# Altium footprint library ON Semiconductor Footprints.PcbLib: 123 footprints (part 8 of 8)
Each footprint in its own frame and in the unit in brackets; x right, y up, seen from the top. Pads: shape width x height; smd on the part's side, far side on the other; paste and mask are expansions set on the pad; w line width, h text height; cw(c..) or ccw(c..) is an arc to the next point about the centre after c.
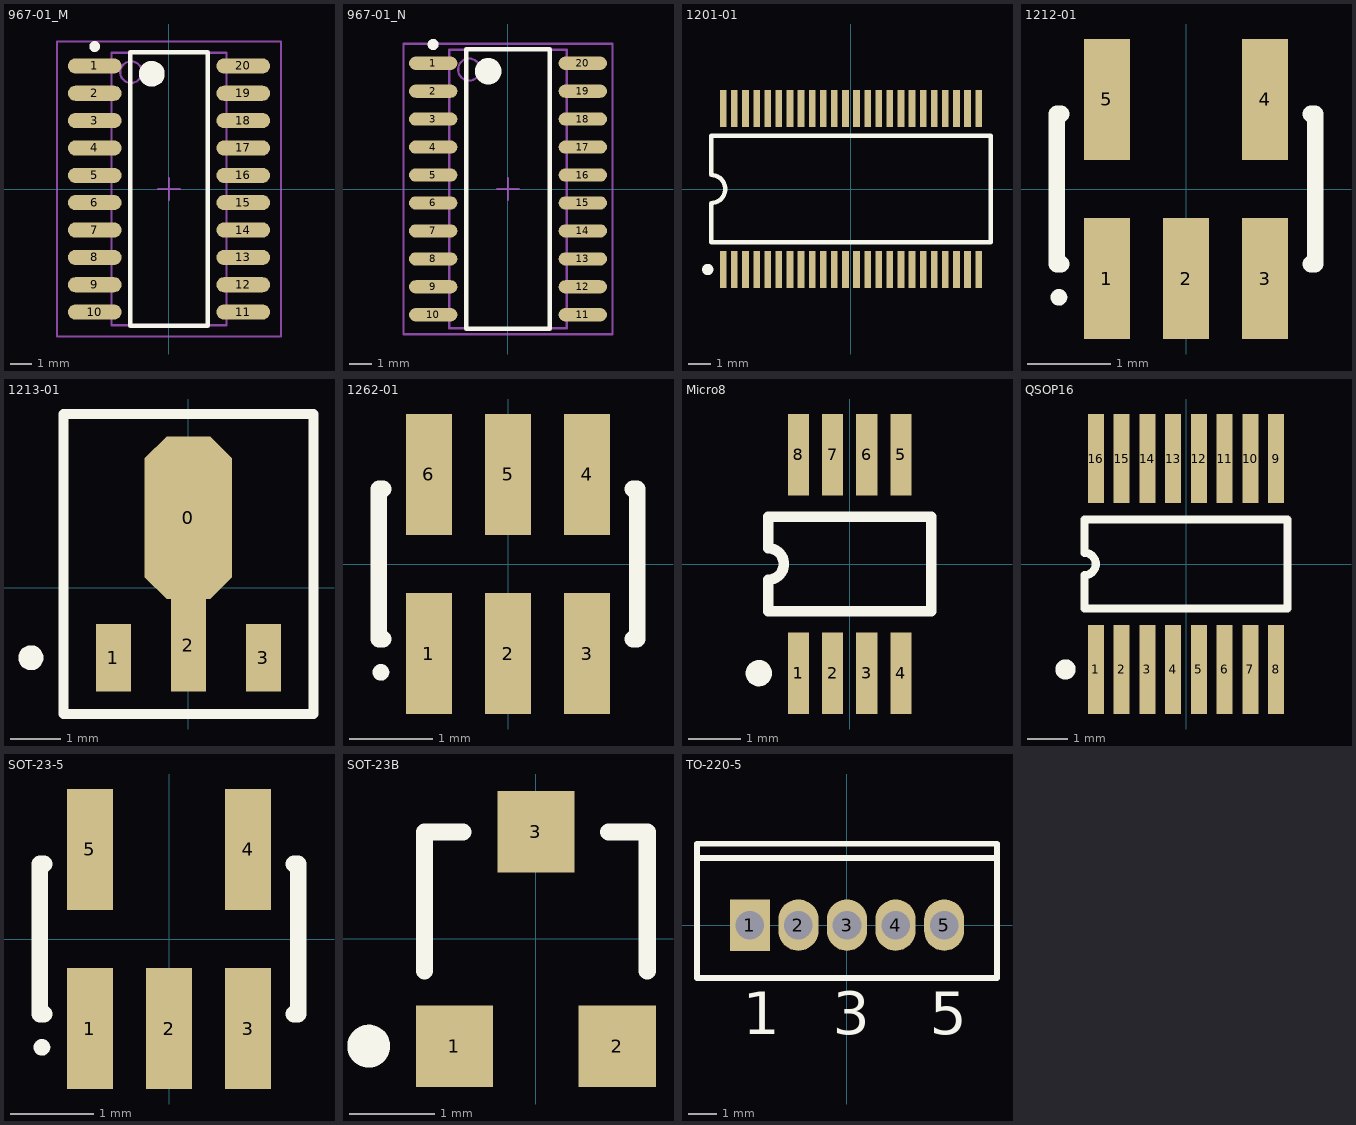
[diagram p7: the footprints below, top view; thin cyan lines are the x and y axes]

## 967-01_M [mm] "20-Pin Small Outline Package 1.27 mm Pitch, IPC Low Density"
height 2.05
pads (20):
  oval 2.5x0.7 smd: 1(-3.45,5.715) 2(-3.45,4.445) 3(-3.45,3.175) 4(-3.45,1.905) 5(-3.45,0.635) 6(-3.45,-0.635) 7(-3.45,-1.905) 8(-3.45,-3.175) 9(-3.45,-4.445) 10(-3.45,-5.715) 11(3.45,-5.715) 12(3.45,-4.445) 13(3.45,-3.175) 14(3.45,-1.905) 15(3.45,-0.635) 16(3.45,0.635) 17(3.45,1.905) 18(3.45,3.175) 19(3.45,4.445) 20(3.45,5.715)
Top Overlay:
  circle w0.6: c-0.8,5.35 r0.3
  circle w0.25: c-3.45,6.615 r0.125
  lines w0.2: -1.8,-6.35 1.8,-6.35 1.8,6.35 -1.8,6.35 -1.8,-6.35
Mechanical 13:
  circle w0.1: c-1.765,5.425 r0.5
  lines w0.1: -2.665,-6.325 2.665,-6.325 2.665,6.325 -2.665,6.325 -2.665,-6.325
Mechanical 15:
  lines w0.1: -0.5,0 0.5,0 ; 0,-0.5 0,0.5 ; -5.2,-6.85 5.2,-6.85 5.2,6.85 -5.2,6.85 -5.2,-6.85
3D body: height 2.05, standoff 0, extent -2.665,-6.325 2.665,6.325

## 967-01_N [mm] "20-Pin Small Outline Package 1.27 mm Pitch, IPC Medium Density"
height 2.05
pads (20):
  oval 2.2x0.6 smd: 1(-3.4,5.715) 2(-3.4,4.445) 3(-3.4,3.175) 4(-3.4,1.905) 5(-3.4,0.635) 6(-3.4,-0.635) 7(-3.4,-1.905) 8(-3.4,-3.175) 9(-3.4,-4.445) 10(-3.4,-5.715) 11(3.4,-5.715) 12(3.4,-4.445) 13(3.4,-3.175) 14(3.4,-1.905) 15(3.4,-0.635) 16(3.4,0.635) 17(3.4,1.905) 18(3.4,3.175) 19(3.4,4.445) 20(3.4,5.715)
Top Overlay:
  circle w0.6: c-0.9,5.35 r0.3
  circle w0.25: c-3.4,6.565 r0.125
  lines w0.2: -1.9,-6.35 1.9,-6.35 1.9,6.35 -1.9,6.35 -1.9,-6.35
Mechanical 13:
  circle w0.1: c-1.765,5.425 r0.5
  lines w0.1: -2.665,-6.325 2.665,-6.325 2.665,6.325 -2.665,6.325 -2.665,-6.325
Mechanical 15:
  lines w0.1: -0.5,0 0.5,0 ; 0,-0.5 0,0.5 ; -4.75,-6.6 4.75,-6.6 4.75,6.6 -4.75,6.6 -4.75,-6.6
3D body: height 2.05, standoff 0, extent -2.665,-6.325 2.665,6.325

## 1201-01 [mm] "Shrink Small Outline; 48 Leads; Body Width 6.1 mm; Pitch 0.5 mm"
height 1.1
pads (48):
  rect 0.3x1.65 smd: 1(-5.75,-3.625) 2(-5.25,-3.625) 3(-4.75,-3.625) 4(-4.25,-3.625) 5(-3.75,-3.625) 6(-3.25,-3.625) 7(-2.75,-3.625) 8(-2.25,-3.625) 9(-1.75,-3.625) 10(-1.25,-3.625) 11(-0.75,-3.625) 12(-0.25,-3.625) 13(0.25,-3.625) 14(0.75,-3.625) 15(1.25,-3.625) 16(1.75,-3.625) 17(2.25,-3.625) 18(2.75,-3.625) 19(3.25,-3.625) 20(3.75,-3.625) 21(4.25,-3.625) 22(4.75,-3.625) 23(5.25,-3.625) 24(5.75,-3.625) 25(5.75,3.625) 26(5.25,3.625) 27(4.75,3.625) 28(4.25,3.625) 29(3.75,3.625) 30(3.25,3.625) 31(2.75,3.625) 32(2.25,3.625) 33(1.75,3.625) 34(1.25,3.625) 35(0.75,3.625) 36(0.25,3.625) 37(-0.25,3.625) 38(-0.75,3.625) 39(-1.25,3.625) 40(-1.75,3.625) 41(-2.25,3.625) 42(-2.75,3.625) 43(-3.25,3.625) 44(-3.75,3.625) 45(-4.25,3.625) 46(-4.75,3.625) 47(-5.25,3.625) 48(-5.75,3.625)
Top Overlay:
  circle w0.25: c-6.45,-3.625 r0.125
  lines w0.2: -6.3,-2.4 6.3,-2.4 6.3,2.4 -6.3,2.4 -6.3,0.635 cw(c-6.3,0) -6.3,-0.635 -6.3,-2.4

## 1212-01 [mm] "SOT-23/SC-74A; 5 Leads; Body 3 x 3.1 mm, inc. leads (LxW max)"
height 1.45
pads (5):
  rect 0.55x1.45 smd: 1(-0.95,-1.075) 2(0,-1.075) 3(0.95,-1.075) 4(0.95,1.075) 5(-0.95,1.075)
Top Overlay:
  circle w0.1: c-1.525,-1.3 r0.05
  lines w0.2: -1.5,-0.9 -1.55,-0.9 -1.55,0.9 -1.5,0.9 ; 1.5,-0.9 1.55,-0.9 1.55,0.9 1.5,0.9

## 1213-01 [mm] "SOT-89; Body 4.6 x 4.25 mm, inc. leads (LxW max)"
height 1.6
pads (4):
  oct 1.75x3.25 smd: 0(0,1.4)
  rect 0.7x1.35 smd: 1(-1.5,-1.4) 3(1.5,-1.4)
  rect 0.7x1.85 smd: 2(0,-1.15)
Top Overlay:
  circle w0.25: c-3.15,-1.4 r0.125
  lines w0.2: -2.5,-2.525 -2.5,3.475 2.5,3.475 2.5,-2.525 -2.5,-2.525

## 1262-01 [mm] "SOT-457/SC-74; 6 Leads; Body 3 x 3 mm, inc. leads (LxW max)"
height 1.45
pads (6):
  rect 0.55x1.45 smd: 1(-0.95,-1.075) 2(0,-1.075) 3(0.95,-1.075) 4(0.95,1.075) 5(0,1.075) 6(-0.95,1.075)
Top Overlay:
  circle w0.1: c-1.525,-1.3 r0.05
  lines w0.2: -1.5,-0.9 -1.55,-0.9 -1.55,0.9 -1.5,0.9 ; 1.5,-0.9 1.55,-0.9 1.55,0.9 1.5,0.9

## Micro8 [mm] "Shrink Small Outline; 8 Leads; Body Width 3 mm; Pitch 0.65 mm"
height 1.1
pads (8):
  rect 0.4x1.55 smd: 1(-0.975,-2.075) 2(-0.325,-2.075) 3(0.325,-2.075) 4(0.975,-2.075) 5(0.975,2.075) 6(0.325,2.075) 7(-0.325,2.075) 8(-0.975,2.075)
Top Overlay:
  circle w0.25: c-1.725,-2.075 r0.125
  lines w0.2: -1.55,-0.9 1.55,-0.9 1.55,0.9 -1.55,0.9 -1.55,0.3 cw(c-1.55,0) -1.55,-0.3 -1.55,-0.9

## QSOP16 [mm] "SSOP; 16 Leads; Body Width 3.9 mm; Pitch 0.635 mm"
height 1.76
pads (16):
  rect 0.4x2.2 smd: 1(-2.222,-2.6) 2(-1.587,-2.6) 3(-0.953,-2.6) 4(-0.318,-2.6) 5(0.318,-2.6) 6(0.953,-2.6) 7(1.587,-2.6) 8(2.222,-2.6) 9(2.222,2.6) 10(1.587,2.6) 11(0.953,2.6) 12(0.318,2.6) 13(-0.318,2.6) 14(-0.953,2.6) 15(-1.587,2.6) 16(-2.222,2.6)
Top Overlay:
  circle w0.25: c-2.973,-2.6 r0.125
  lines w0.2: -2.5,-1.1 2.5,-1.1 2.5,1.1 -2.5,1.1 -2.5,0.275 cw(c-2.5,0) -2.5,-0.275 -2.5,-1.1

## SOT-23-5 [mm] "SOT-23/SC-74A; 5 Leads; Body 3.1 x 3.1 mm, inc. leads (LxW max)"
height 1.45
pads (5):
  rect 0.55x1.45 smd: 1(-0.95,-1.075) 2(0,-1.075) 3(0.95,-1.075) 4(0.95,1.075) 5(-0.95,1.075)
Top Overlay:
  circle w0.1: c-1.525,-1.3 r0.05
  lines w0.2: -1.5,-0.9 -1.55,-0.9 -1.55,0.9 -1.5,0.9 ; 1.5,-0.9 1.55,-0.9 1.55,0.9 1.5,0.9

## SOT-23B [mm] "SOT-23; 3 Leads; Body 3.0 x 2.6 mm, inc. leads (LxW max)"
height 1.09
pads (3):
  rect 0.9x0.95 smd: 1(-0.95,-1.25) 2(0.95,-1.25) 3(0,1.25)
Top Overlay:
  circle w0.25: c-1.95,-1.25 r0.125
  lines w0.2: -1.3,-0.375 -1.3,1.25 -0.85,1.25 ; 0.85,1.25 1.3,1.25 1.3,-0.375

## TO-220-5 [mm] "TO, Thru-Hole, Vertical, Heatsink Mounted; 5 In-Line Leads; Pitch 1.70 mm"
height 15.1
pads (5):
  rect 1.4x1.8 hole 1: 1(-3.4,0)
  oval 1.4x1.8 hole 1: 2(-1.7,0) 3(0,0) 4(1.7,0) 5(3.4,0)
Top Overlay:
  lines w0.2: -5.25,2.35 5.25,2.35 ; -5.25,-1.85 5.25,-1.85 5.25,2.85 -5.25,2.85 -5.25,-1.85
  text "1" at -3.65,-3.825 h1.5
  text "3" at -0.5,-3.825 h1.5
  text "5" at 2.9,-3.825 h1.5